# Altium schematic symbol library 2EDN8533FXTMA1.SchLib: 1 symbol
Pins are listed as number, name and electrical type; pins without a type are passive.

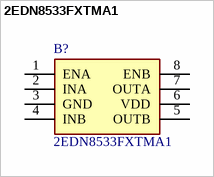
[diagram p0: symbol 2EDN8533FXTMA1]

## 2EDN8533FXTMA1
designator B?
DRIVER IC PG-DSO-8; Manufacturer_Name: Infineon; Geometry.Height: 1.73mm; Mouser Part Number: *; Mouser Price/Stock: *; Manufacturer_Part_Number: 2EDN8533FXTMA1; Datasheet Link: https://www.infineon.com/cms/en/product/power/gate-driver-ics/?
footprint SOIC127P602X173-8N
pins: 1 ENA, 2 INA, 3 GND, 4 INB, 5 OUTB, 6 VDD, 7 OUTA, 8 ENB